# EAGLE library part 23LC1024 (library atmel-samd)
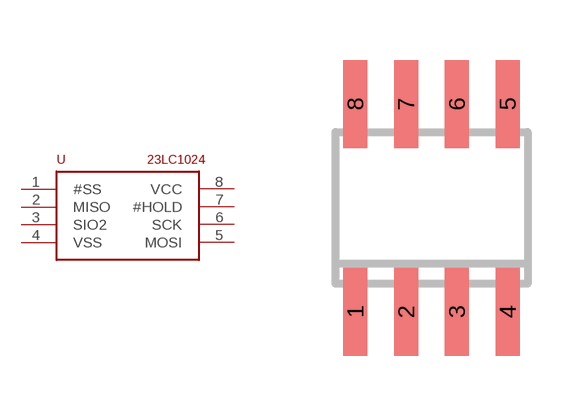
[diagram p1: symbol with the pads of SO-08; footprint SO-08]

Designator prefix -

## 23LC1024  [SO-08]
1  #SS  in
2  MISO  out
3  SIO2
4  VSS  pwr
5  MOSI  in
6  SCK  in
7  #HOLD  in
8  VCC  pwr

## Footprint SO-08 (pad centres in mm)
Small Outline Narrow Plastic Gull Wing 150-mil body, package type SN
smd 0.6 x 2.2: 1 -1.905,-2.6; 2 -0.635,-2.6; 3 0.635,-2.6; 4 1.905,-2.6; 5 1.905,2.6; 6 0.635,2.6; 7 -0.635,2.6; 8 -1.905,2.6